# Altium footprint library mylib.PcbLib: 33 footprints (part 3 of 3)
Each footprint in its own frame and in the unit in brackets; x right, y up, seen from the top. Pads: shape width x height; smd on the part's side, far side on the other; paste and mask are expansions set on the pad; w line width, h text height; cw(c..) or ccw(c..) is an arc to the next point about the centre after c.
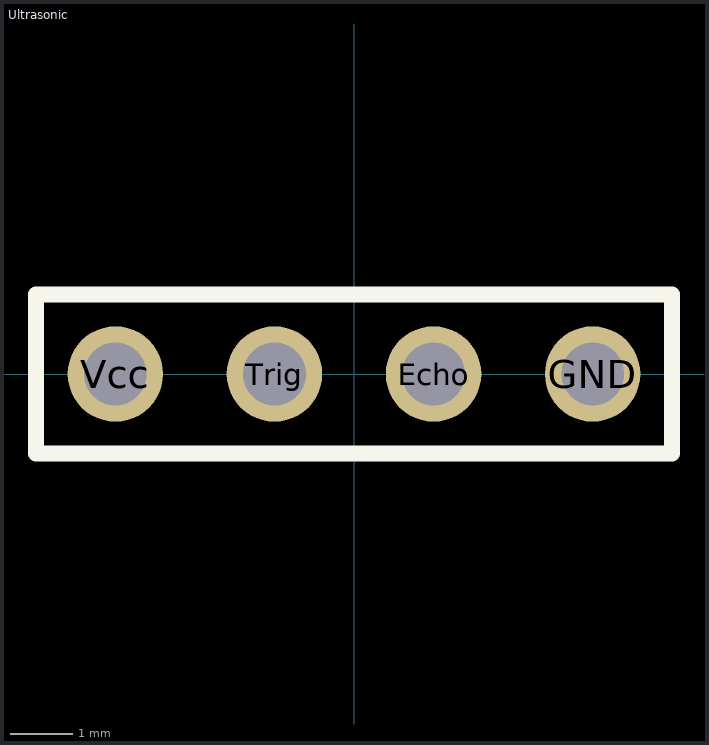
[diagram p2: the footprint, top view; thin cyan lines are the x and y axes]

## Ultrasonic [mil]
pads (4):
  round 60 hole 39.37: Echo(50,0) GND(150,0) Trig(-50,0) Vcc(-150,0)
Top Overlay:
  lines w10: -200,-50 200,-50 200,50 -200,50 -200,-50